# EAGLE library part LM75BDP-TSSOP8 (library AllAboutEE)
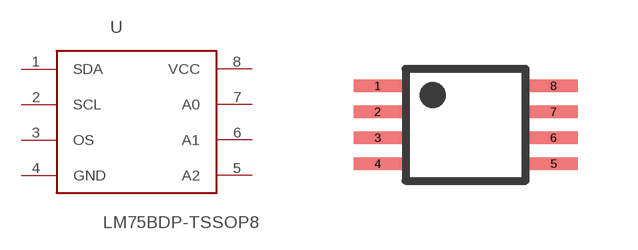
[diagram p9: symbol with the pads of TSSOP8; footprint TSSOP8]

Designator prefix -

## LM75BDP-TSSOP8 (INTERFACE: I2C, 2-Wire, SMBus; MAX_OPERATING_TEMPERATURE: +125C; MINIMUM_OPERATING_TEMPERATURE: -55C; RESOLUTION: 11 bit; VSUPPLY_MAX: 5.5v; VSUPPLY_MIN: 2.8v)  [TSSOP8]
1  SDA
2  SCL
3  OS
4  GND
5  A2
6  A1
7  A0
8  VCC

## Footprint TSSOP8 (pad centres in mm)
Thin Shrink Small Outline Package 0.65mm Pitch, 3.0mm x 3.0mm
smd 1.2 x 0.305: 1 -2.2,0.975; 2 -2.2,0.325; 3 -2.2,-0.325; 4 -2.2,-0.975; 5 2.2,-0.975; 6 2.2,-0.325; 7 2.2,0.325; 8 2.2,0.975